# Altium footprint library Magnetic_Part_Footprints.PcbLib: 6 footprints
Each footprint in its own frame and in the unit in brackets; x right, y up, seen from the top. Pads: shape width x height; smd on the part's side, far side on the other; paste and mask are expansions set on the pad; w line width, h text height; cw(c..) or ccw(c..) is an arc to the next point about the centre after c.
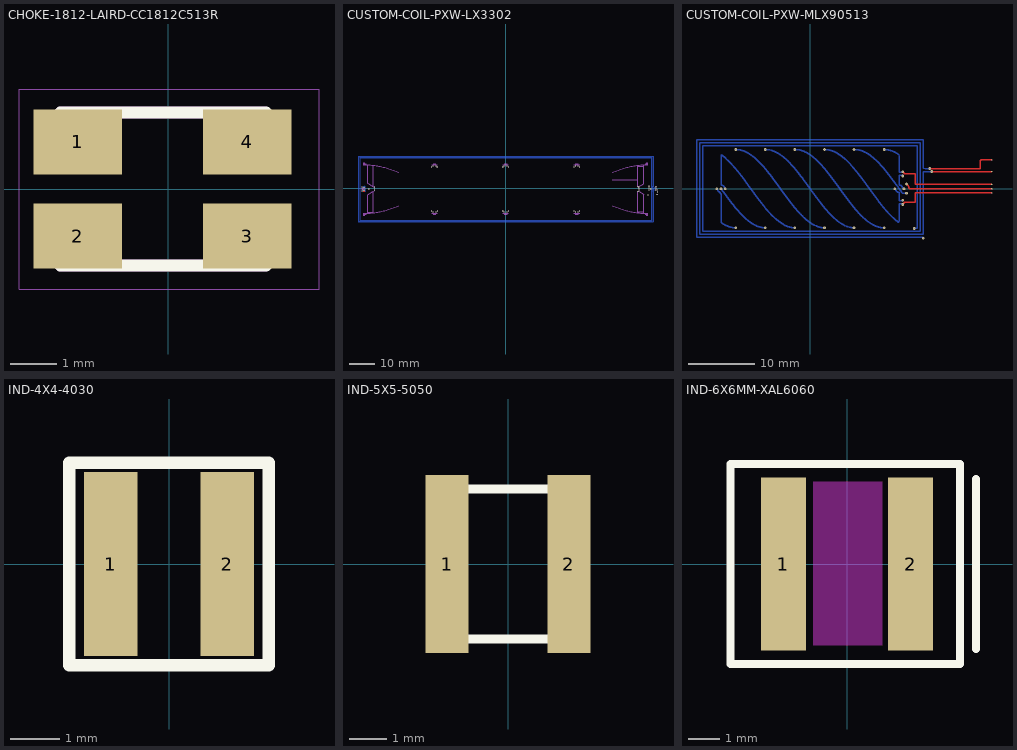
[diagram p0: the footprints below, top view; thin cyan lines are the x and y axes]

## CHOKE-1812-LAIRD-CC1812C513R [mil]
pads (4):
  rect 75x55 smd: 1(-77,40) 2(-77,-40) 3(67,-40) 4(67,40)
Top Overlay:
  lines w10: -92,-65 83,-65 ; -92,65 83,65
Top Assembly:
  lines w10: -92,-45 -92,-65 83,-65 83,-45 ; -92,45 -92,65 83,65 83,45
Mechanical 16:
  lines w1: -127,-85 128,-85 128,85 -127,85 -127,-85
3D body "L_Coilcraft_XAL4030.STEP": height 118.11, standoff -3.94, extent -84.65,-84.65 84.65,84.65

## CUSTOM-COIL-PXW-LX3302 [mil]
pads (6):
  round 16 hole 8: CL1(2306,-90) CL2(2305,-20) CT(2310,-55) OSC1(2286.5,4) OSC2(2285,30) VT(2278.5,-20.64)
via -1996.55,-33.59 diameter 16 hole 8
via -1996.58,-8.02 diameter 16 hole 8
via -1996.58,17.99 diameter 16 hole 8
via -2083.07,-7.96 diameter 16 hole 8
via -2152.82,12.66 diameter 16 hole 8
via -2169.31,-7.96 diameter 16 hole 8
via -2152.86,-28.4 diameter 16 hole 8
via 2011.2,28.63 diameter 16 hole 8
via 2012.6,-45.34 diameter 16 hole 8
via 2025.92,-21.92 diameter 16 hole 8
via 2025.66,5.11 diameter 16 hole 8
via 2181.56,-22.06 diameter 16 hole 8
via 2181.41,6.37 diameter 16 hole 8
via 2181.56,33.47 diameter 16 hole 8
via 1103.33,-360.07 diameter 16 hole 8
via 1060.02,-360.07 diameter 16 hole 8
via 1125.1,-343.53 diameter 16 hole 8
via 1038.37,-342.71 diameter 16 hole 8
via 20.65,-360.07 diameter 16 hole 8
via -22.65,-360.07 diameter 16 hole 8
via 42.43,-343.53 diameter 16 hole 8
via -44.31,-342.71 diameter 16 hole 8
via -1062.02,-360.07 diameter 16 hole 8
via -1105.33,-360.07 diameter 16 hole 8
via -1040.25,-343.53 diameter 16 hole 8
via -1126.98,-342.71 diameter 16 hole 8
via -1105.33,344.07 diameter 16 hole 8
via -1062.02,344.07 diameter 16 hole 8
via -1127.1,327.53 diameter 16 hole 8
via -1040.37,326.71 diameter 16 hole 8
via 1060.02,344.07 diameter 16 hole 8
via 1103.33,344.07 diameter 16 hole 8
via 1038.25,327.53 diameter 16 hole 8
via 1124.98,326.71 diameter 16 hole 8
via 42.31,326.71 diameter 16 hole 8
via -44.43,327.52 diameter 16 hole 8
via 20.65,344.07 diameter 16 hole 8
via -22.65,344.07 diameter 16 hole 8
via 2207.39,-6.97 diameter 16 hole 8
via 2164.35,-98.5 diameter 16 hole 8
via -2184.69,-37.26 diameter 16 hole 8
via -2185.08,20.74 diameter 16 hole 8
Top:
  lines w6: -2167.95,-37.26 ccw(c-2152.86,-28.4) -2144.8,-43.94
Inner Layer 2:
  drawing of 2044 lines, arcs and shapes, not listed
Inner Layer 3:
  lines w6: -2247.06,492 2245.06,492 ; -2247,491.99 -2247,-508 2244.98,-508 2245,-27.57 ; -2234.03,479 2232,479 ; -2234,478.92 -2234,-495 2231.99,-495 ; 2207.39,-6.97 2219,-18.58 2219,-482 -2220.99,-482 -2221,466 2218.96,466 ; 2219,465.98 2219,9 2232,-4 2232,-20.07 ; 2232,-494.92 2232,-20.07 ; 2232,-22.57 2232,-20.07 ; 2232.03,479 2232,479 ; 2245,-31.02 2245,-27.57 ; 2245,492 2245,20 2261.88,3.12 2287.54,3.12 ; 2232,479 2232,15.66 2245,2.66 2245,-27.57 ; 2232,479 2232,479
Inner Layer 4:
  drawing of 2034 lines, arcs and shapes, not listed
Bottom:
  lines w6: -2247.06,492 2245.06,492 ; -2247,491.99 -2247,-508 2244.98,-508 2245,-40.57 2258,-27.57 ; -2234.03,479 2232,479 ; -2234,478.92 -2234,-495 2231.99,-495 ; -2184.96,20.7 -2168.34,20.71 ; -2184.57,-37.3 -2167.95,-37.3 ; -2168.34,20.74 cw(c-2152.82,12.66) -2136.84,5.54 ; -2167.73,-37.14 ccw(c-2152.57,-28.4) -2138.68,-17.75 ; -2138.61,-17.71 ccw(c-2150.64,-5) -2136.7,5.57 ; 2207.39,-6.97 2219,4.64 2219,465.98 ; 2218.96,466 -2220.98,466 -2221,-481.98 2219,-482 2219,-21.47 2232,-8.47 2232,40.24 2232,479 ; 2232,-494.92 2232,-28.86 2244.98,-15.87 2244.98,30.76 ; 2232.03,479 2232,479 ; 2245,29.61 2245,492 ; 2285,30 2258,3 2258,-27.57 ; 2232,479 2232,479 ; 2258,-27.57 2258,-27.57
Bottom Assembly:
  lines w6: -2155.53,-37.81 -2144.7,-43.99 ; -2155.53,21.81 -2144.7,27.99
Assembly Notes:
  lines w6: -2101.45,-364.12 -2014.93,-364.12 ; 2012.87,-353.73 2099.39,-353.73 ; 2012.87,341.24 2099.39,341.24
Fab Notes:
  drawing of 197 lines, arcs and shapes, not listed

## CUSTOM-COIL-PXW-MLX90513 [mil]
pads (5):
  round 8 smd: IN0(1084.5,25.5) IN1(1085,0) IN2(1085,-25.5) LCN(1084.5,102.5) LCP(1084.5,171.5)
via 575.75,-28.17 diameter 16 hole 8
via 262.67,233.79 diameter 16 hole 8
via -267.09,-233.72 diameter 16 hole 8
via -531.53,0.05 diameter 16 hole 8
via -267.09,233.82 diameter 16 hole 8
via 262.67,-233.69 diameter 16 hole 8
via 553.31,-68.8 diameter 16 hole 8
via 505.68,0.05 diameter 16 hole 8
via 85.79,-233.7 diameter 16 hole 8
via -443.38,233.83 diameter 16 hole 8
via -557.32,0.05 diameter 16 hole 8
via -443.38,-233.73 diameter 16 hole 8
via 85.79,233.8 diameter 16 hole 8
via 553.31,-94.59 diameter 16 hole 8
via 553.31,75.35 diameter 16 hole 8
via 561.19,0.05 diameter 16 hole 8
via 443.09,-233.73 diameter 16 hole 8
via -90.8,233.8 diameter 16 hole 8
via -505.74,0.05 diameter 16 hole 8
via -90.8,-233.71 diameter 16 hole 8
via 443.09,233.83 diameter 16 hole 8
via 553.31,101.14 diameter 16 hole 8
via 621.42,-237.55 diameter 16 hole 8
via 675.16,-295.23 diameter 16 hole 8
via 575.75,28.27 diameter 16 hole 8
via 715.61,120.32 diameter 16 hole 8
via 727.16,102.41 diameter 16 hole 8
Top:
  lines w7.87: 555.63,-90.35 557.79,-89.45 559.65,-88.03 561.07,-86.17 561.97,-84.02 562.27,-81.7 579.69,-81.7 597.1,-81.7 614.53,-81.7 626.74,-81.7 626.74,-62.98 626.74,-44.26 626.74,-25.54 649.36,-25.54 666.78,-25.54 684.19,-25.54 701.61,-25.54 719.03,-25.54 736.45,-25.54 753.87,-25.54 771.29,-25.54 788.7,-25.54 806.12,-25.54 823.54,-25.54 840.96,-25.54 858.38,-25.54 875.79,-25.54 893.21,-25.54 910.63,-25.54 928.05,-25.54 945.47,-25.54 962.88,-25.54 980.3,-25.54 997.72,-25.54 1015.14,-25.54 1032.56,-25.54 1049.97,-25.54 1067.39,-25.54 1084.81,-25.54 ; 555.63,96.9 557.79,96.01 559.65,94.58 561.07,92.73 561.97,90.57 562.27,88.25 579.69,88.25 597.1,88.25 614.53,88.25 626.74,88.25 626.74,67.38 626.74,46.51 626.74,25.64 649.36,25.64 666.78,25.64 684.19,25.64 701.61,25.64 719.03,25.64 736.45,25.64 753.87,25.64 771.29,25.64 788.7,25.64 806.12,25.64 823.54,25.64 840.96,25.64 858.38,25.64 875.79,25.64 893.21,25.64 910.63,25.64 928.05,25.64 945.47,25.64 962.88,25.64 980.3,25.64 997.72,25.64 1015.14,25.64 1032.56,25.64 1049.97,25.64 1067.39,25.64 1084.81,25.64 ; 575.75,28.27 577.57,26.98 579.31,25.58 580.94,24.07 582.48,22.46 583.9,20.74 585.21,18.94 586.4,17.05 587.45,15.09 588.38,13.07 589.17,10.99 589.82,8.86 590.34,6.69 590.7,4.49 590.92,2.28 590.99,0.05 620.72,0.05 626.66,0.05 643.63,0.05 660.6,0.05 677.56,0.05 694.53,0.05 711.5,0.05 728.47,0.05 745.44,0.05 762.41,0.05 779.38,0.05 796.34,0.05 813.31,0.05 830.28,0.05 847.25,0.05 864.22,0.05 881.19,0.05 898.16,0.05 915.12,0.05 932.09,0.05 949.06,0.05 966.03,0.05 983,0.05 999.97,0.05 1016.93,0.05 1033.9,0.05 1050.87,0.05 1067.84,0.05 1084.81,0.05 ; 715.61,120.32 727.16,120.32 738.72,120.32 750.27,120.32 761.83,120.32 773.38,120.32 784.94,120.32 796.49,120.32 808.05,120.32 819.6,120.32 831.16,120.32 842.71,120.32 854.27,120.32 865.82,120.32 877.38,120.32 888.93,120.32 900.49,120.32 912.04,120.32 923.6,120.32 935.15,120.32 946.71,120.32 958.26,120.32 969.82,120.32 981.37,120.32 992.93,120.32 1004.48,120.32 1016.04,120.32 1016.04,125.44 1016.04,130.56 1016.04,135.68 1016.04,140.8 1016.04,145.91 1016.04,151.03 1016.04,156.15 1016.04,161.27 1016.04,166.39 1021.16,171.5 1037.56,171.5 1043.86,171.5 1050.16,171.5 1056.46,171.5 1062.76,171.5 1069.06,171.5 1075.36,171.5 1081.66,171.5 1084.81,171.5 ; 727.16,102.41 732.94,102.41 750.27,102.41 761.83,102.41 773.38,102.41 784.94,102.41 796.49,102.41 808.05,102.41 819.6,102.41 831.16,102.41 842.71,102.41 854.27,102.41 865.82,102.41 877.38,102.41 888.93,102.41 900.49,102.41 912.04,102.41 923.6,102.41 935.15,102.41 946.71,102.41 958.26,102.41 969.82,102.41 981.37,102.41 992.93,102.41 1004.48,102.41 1016.04,102.41 1027.59,102.41 1032.32,102.41 1037.04,102.41 1041.77,102.41 1046.49,102.41 1051.22,102.41 ; 1045.44,102.41 1049.38,102.41 1056.46,102.41 1061.19,102.41 1065.91,102.41 1070.64,102.41 1075.36,102.41 1080.08,102.41 1084.81,102.41
Inner Layer 1:
  lines w7.87: 553.31,-68.8 553.31,-72.74 555.63,-73.04 557.79,-73.94 559.65,-75.36 561.07,-77.22 561.97,-79.38 562.27,-81.7 579.69,-81.7 597.1,-81.7 614.53,-81.7 626.74,-81.7 626.74,-62.98 626.74,-44.26 626.74,-25.54 649.36,-25.54 666.78,-25.54 684.19,-25.54 701.61,-25.54 719.03,-25.54 736.45,-25.54 753.87,-25.54 771.29,-25.54 788.7,-25.54 806.12,-25.54 823.54,-25.54 840.96,-25.54 858.38,-25.54 875.79,-25.54 893.21,-25.54 910.63,-25.54 928.05,-25.54 945.47,-25.54 962.88,-25.54 980.3,-25.54 997.72,-25.54 1015.14,-25.54 1032.56,-25.54 1049.97,-25.54 1067.39,-25.54 1084.81,-25.54 1116.31,-25.54 1116.31,0.05 ; 553.31,75.35 553.31,79.29 555.63,79.6 557.79,80.49 559.65,81.92 561.07,83.77 561.97,85.93 562.27,88.25 579.69,88.25 597.1,88.25 614.53,88.25 626.74,88.25 626.74,67.38 626.74,46.51 626.74,25.64 649.36,25.64 666.78,25.64 684.19,25.64 701.61,25.64 719.03,25.64 736.45,25.64 753.87,25.64 771.29,25.64 788.7,25.64 806.12,25.64 823.54,25.64 840.96,25.64 858.38,25.64 875.79,25.64 893.21,25.64 910.63,25.64 928.05,25.64 945.47,25.64 962.88,25.64 980.3,25.64 997.72,25.64 1015.14,25.64 1032.56,25.64 1049.97,25.64 1067.39,25.64 1084.81,25.64 1116.31,25.64 1116.31,0.05 ; 575.75,-28.17 577.57,-26.89 579.31,-25.49 580.94,-23.98 582.48,-22.36 583.9,-20.65 585.21,-18.85 586.4,-16.96 587.45,-15 588.38,-12.98 589.17,-10.89 589.82,-8.76 590.34,-6.59 590.7,-4.4 590.92,-2.18 590.99,0.05 620.72,0.05 626.66,0.05 643.63,0.05 ; 643.63,0.05 660.6,0.05 ; 643.63,0.05 660.6,0.05 ; 660.6,0.05 677.56,0.05 ; 660.6,0.05 677.56,0.05 ; 677.56,0.05 694.53,0.05 ; 677.56,0.05 694.53,0.05 ; 694.53,0.05 711.5,0.05 ; 694.53,0.05 711.5,0.05 ; 711.5,0.05 728.47,0.05 ; 711.5,0.05 728.47,0.05 ; 728.47,0.05 745.44,0.05 ; 728.47,0.05 745.44,0.05 ; 745.44,0.05 762.41,0.05 ; 745.44,0.05 762.41,0.05 ; 762.41,0.05 779.38,0.05 ; 762.41,0.05 779.38,0.05 ; 779.38,0.05 796.34,0.05 ; 779.38,0.05 796.34,0.05 ; 796.34,0.05 813.31,0.05 ; 796.34,0.05 813.31,0.05 ; 813.31,0.05 830.28,0.05 ; 813.31,0.05 830.28,0.05 ; 830.28,0.05 847.25,0.05 ; 830.28,0.05 847.25,0.05 ; 847.25,0.05 864.22,0.05 ; 847.25,0.05 864.22,0.05 ; 864.22,0.05 881.19,0.05 ; 864.22,0.05 881.19,0.05 ; 881.19,0.05 898.16,0.05 ; 881.19,0.05 898.16,0.05 ; 898.16,0.05 915.12,0.05 ; 898.16,0.05 915.12,0.05 ; 915.12,0.05 932.09,0.05 ; 915.12,0.05 932.09,0.05 ; 932.09,0.05 949.06,0.05 ; 932.09,0.05 949.06,0.05 ; 949.06,0.05 966.03,0.05 ; 949.06,0.05 966.03,0.05 ; 966.03,0.05 983,0.05 ; 966.03,0.05 983,0.05 ; 983,0.05 999.97,0.05 ; 983,0.05 999.97,0.05 ; 999.97,0.05 1016.93,0.05 ; 999.97,0.05 1016.93,0.05 ; 1016.93,0.05 1033.9,0.05 ; 1016.93,0.05 1033.9,0.05 ; 1033.9,0.05 1050.87,0.05 ; 1033.9,0.05 1050.87,0.05 ; 1050.87,0.05 1067.84,0.05 ; 1050.87,0.05 1067.84,0.05 ; 1067.84,0.05 1084.81,0.05 ; 1067.84,0.05 1084.81,0.05 ; 1084.81,0.05 1116.31,0.05 ; 1084.81,0.05 1116.31,0.05
Inner Layer 4:
  drawing of 2251 lines, arcs and shapes, not listed
Bottom:
  drawing of 2603 lines, arcs and shapes, not listed

## IND-4X4-4030 [mil] "Inductos foorptint for parts including: Coilcraft XAL4030-332MEC, XFMRS INC XFHCL4030-3R3M"
pads (2):
  rect 42x145 smd: 1(-46,0) 2(46,0)
Top Overlay:
  lines w10: -78.74,-80 -78.74,80 78.74,80 78.74,-80 -78.74,-80
3D body "L_COILCRAFT_XAL4030.STEP": height 118.11, standoff -3.94, extent -84.65,-84.65 84.65,84.65

## IND-5X5-5050 [mil] "Inductos foorptint for parts including: Coilcraft XAL5050-223MEC, and XFMRS INC XFHCL5050A-220M"
pads (2):
  rect 46x190 smd: 1(-65,0) 2(65,0)
Top Overlay:
  lines w10: -78.74,-80 78.74,-80 78.74,80 -78.74,80 -78.74,-80
3D body "L_Coilcraft_XAL5050.STEP": height 196.85, standoff -3.94, extent -107.87,-111.81 107.87,111.81

## IND-6X6MM-XAL6060 [mm] "Inductos foorptint for Coilcraft XFHCL5050A-220M"
pads (2):
  rect 1.43x5.5 smd: 1(-2.02,0) 2(2.02,0)
Top keep-out:
  region: -1.067,2.616 1.118,2.616 1.118,-2.591 -1.067,-2.591
Top Overlay:
  lines w0.254: 4.1,-2.7 4.1,2.7 ; -3.7,-3.18 -3.7,3.18 3.6,3.18 3.6,-3.18 -3.7,-3.18
3D body "L_Coilcraft_XAL6060.STEP": height 6, standoff -0.1, extent -3.28,-3.38 3.28,3.38